# EAGLE library part ADS1115 (library ADS1115)
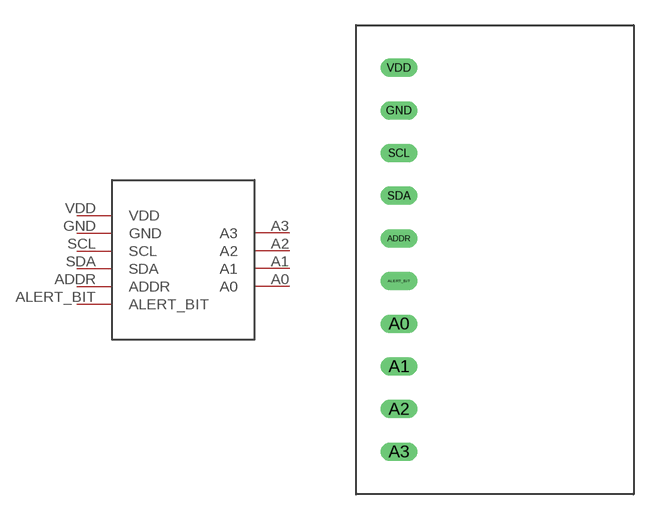
[diagram p0: symbol with the pads of ADS1115_FOOTPRINT; footprint ADS1115_FOOTPRINT]

Designator prefix -

## ADS1115  [ADS1115_FOOTPRINT]
A0  A0
A1  A1
A2  A2
A3  A3
ADDR  ADDR
ALERT_BIT  ALERT_BIT
GND  GND
SCL  SCL
SDA  SDA
VDD  VDD

## Footprint ADS1115_FOOTPRINT (pad centres in mm)
drill 0.6 long: A0 0,-3.81; A1 0,-6.35; A2 0,-8.89; A3 0,-11.43; ADDR 0,1.27; ALERT_BIT 0,-1.27; GND 0,8.89; SCL 0,6.35; SDA 0,3.81; VDD 0,11.43